# Altium schematic symbol library ANTENNA_IIFA.SchLib: 1 symbol
Pins are listed as number, name and electrical type; pins without a type are passive.

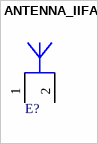
[diagram p0: symbol ANTENNA_IIFA]

## ANTENNA_IIFA
designator E?  (value not drawn)
pins: 1, 2